# EAGLE library part UAF42AP (library Radicon)
UAF42 UNIVERSAL ACTIVE FILTER
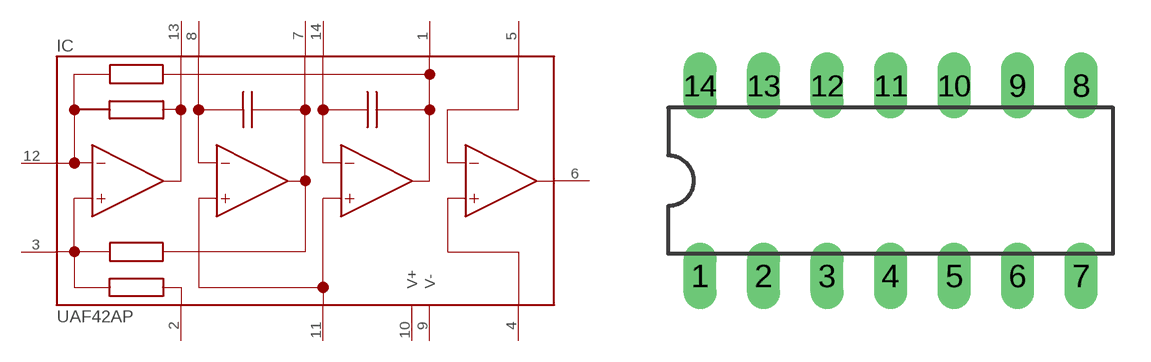
[diagram p29: symbol with the pads of DIL14; footprint DIL14]

Designator prefix IC

## UAF42AP  [DIL14]
1  1
2  2
3  3
4  4
5  5
6  6
7  7
8  8
9  V-
10  V+
11  11
12  12
13  13
14  14

## Footprint DIL14 (pad centres in mm)
Dual In Line Package
drill 0.813 long: 1 -7.62,-3.81; 2 -5.08,-3.81; 3 -2.54,-3.81; 4 0,-3.81; 5 2.54,-3.81; 6 5.08,-3.81; 7 7.62,-3.81; 8 7.62,3.81; 9 5.08,3.81; 10 2.54,3.81; 11 0,3.81; 12 -2.54,3.81; 13 -5.08,3.81; 14 -7.62,3.81